# Altium footprint library tdk.PcbLib: 64 footprints (part 4 of 4)
Each footprint in its own frame and in the unit in brackets; x right, y up, seen from the top. Pads: shape width x height; smd on the part's side, far side on the other; paste and mask are expansions set on the pad; w line width, h text height; cw(c..) or ccw(c..) is an arc to the next point about the centre after c.
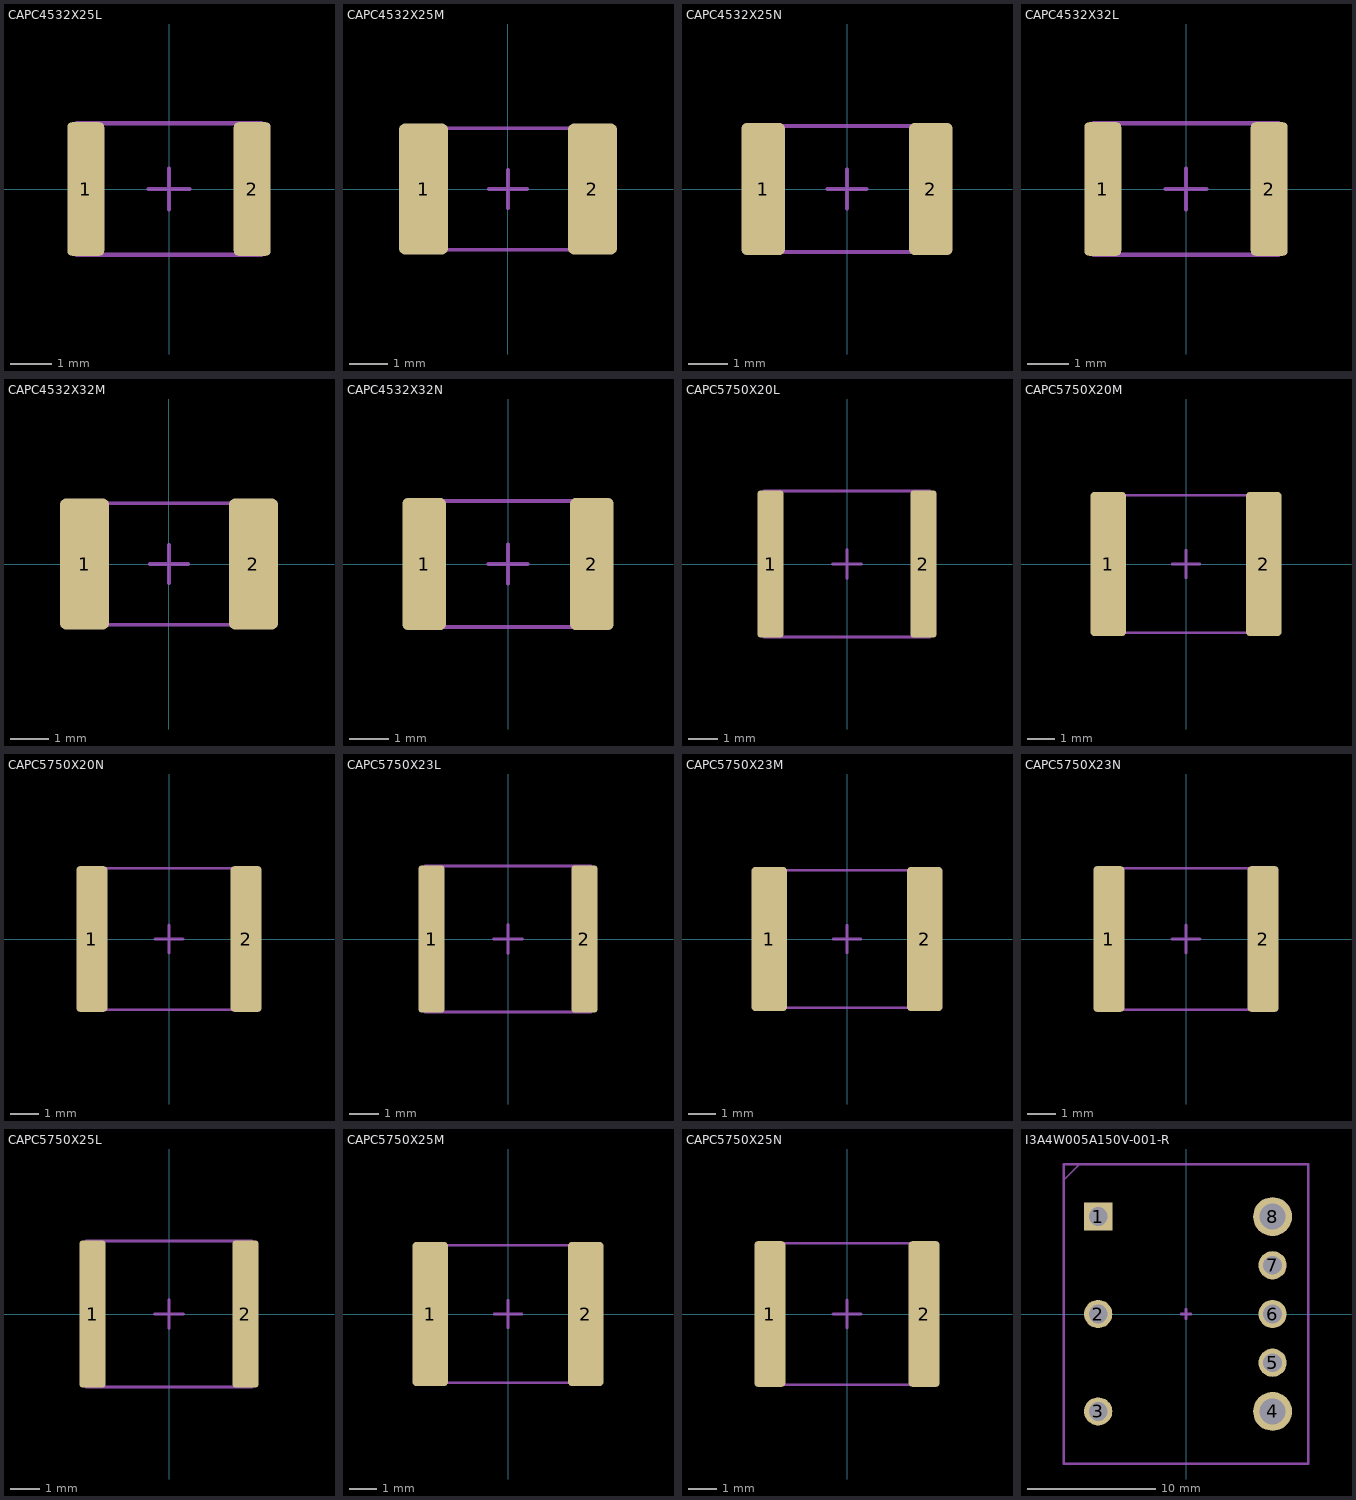
[diagram p3: the footprints below, top view; thin cyan lines are the x and y axes]

## CAPC4532X25L [mm] "Chip Capacitor, 2-Leads, Body 4.50x3.20mm, IPC High Density"
height 2.5
pads (2):
  rrect25% 0.9x3.25 smd mask+0.05: 1(-2.025,0) 2(2.025,0)
Mechanical 15:
  lines w0.1: -0.5,0 0.5,0 ; 0,-0.5 0,0.5 ; -2.25,-1.6 -2.25,1.6 2.25,1.6 2.25,-1.6 -2.25,-1.6
3D body "CAPC4532X25L.step": height 2.5, standoff 0, extent -2.25,-1.6 2.25,1.6

## CAPC4532X25M [mm] "Chip Capacitor, 2-Leads, Body 4.50x3.20mm, IPC Low Density"
height 2.5
pads (2):
  rrect25% 1.3x3.45 smd mask+0.05: 1(-2.225,0) 2(2.225,0)
Mechanical 15:
  lines w0.1: -0.5,0 0.5,0 ; 0,-0.5 0,0.5 ; -2.25,-1.6 2.25,-1.6 2.25,1.6 -2.25,1.6 -2.25,-1.6
3D body "CAPC4532X25M.step": height 2.5, standoff 0, extent -2.25,-1.6 2.25,1.6

## CAPC4532X25N [mm] "Chip Capacitor, 2-Leads, Body 4.50x3.20mm, IPC Medium Density"
height 2.5
pads (2):
  rrect25% 1.1x3.35 smd mask+0.05: 1(-2.125,0) 2(2.125,0)
Mechanical 15:
  lines w0.1: -0.5,0 0.5,0 ; 0,-0.5 0,0.5 ; -2.25,-1.6 2.25,-1.6 2.25,1.6 -2.25,1.6 -2.25,-1.6
3D body "CAPC4532X25N.step": height 2.5, standoff 0, extent -2.25,-1.6 2.25,1.6

## CAPC4532X32L [mm] "Chip Capacitor, 2-Leads, Body 4.50x3.20mm, IPC High Density"
height 3.2
pads (2):
  rrect25% 0.9x3.25 smd mask+0.05: 1(-2.025,0) 2(2.025,0)
Mechanical 15:
  lines w0.1: -0.5,0 0.5,0 ; 0,-0.5 0,0.5 ; -2.25,-1.6 2.25,-1.6 2.25,1.6 -2.25,1.6 -2.25,-1.6
3D body "CAPC4532X32L.step": height 3.2, standoff 0, extent -2.25,-1.6 2.25,1.6

## CAPC4532X32M [mm] "Chip Capacitor, 2-Leads, Body 4.50x3.20mm, IPC Low Density"
height 3.2
pads (2):
  rrect25% 1.3x3.45 smd mask+0.05: 1(-2.225,0) 2(2.225,0)
Mechanical 15:
  lines w0.1: -0.5,0 0.5,0 ; 0,-0.5 0,0.5 ; -2.25,-1.6 2.25,-1.6 2.25,1.6 -2.25,1.6 -2.25,-1.6
3D body "CAPC4532X32M.step": height 3.2, standoff 0, extent -2.25,-1.6 2.25,1.6

## CAPC4532X32N [mm] "Chip Capacitor, 2-Leads, Body 4.50x3.20mm, IPC Medium Density"
height 3.2
pads (2):
  rrect25% 1.1x3.35 smd mask+0.05: 1(-2.125,0) 2(2.125,0)
Mechanical 15:
  lines w0.1: -0.5,0 0.5,0 ; 0,-0.5 0,0.5 ; -2.25,-1.6 2.25,-1.6 2.25,1.6 -2.25,1.6 -2.25,-1.6
3D body "CAPC4532X32N.step": height 3.2, standoff 0, extent -2.25,-1.6 2.25,1.6

## CAPC5750X20L [mm] "Chip Capacitor, 2-Leads, Body 5.70x5.00mm, IPC High Density"
height 2
pads (2):
  rrect25% 0.9x5.05 smd mask+0.05: 1(-2.625,0) 2(2.625,0)
Mechanical 15:
  lines w0.1: -0.5,0 0.5,0 ; 0,-0.5 0,0.5 ; -2.85,-2.5 2.85,-2.5 2.85,2.5 -2.85,2.5 -2.85,-2.5
3D body "CAPC5750X20L.step": height 2, standoff 0, extent -2.85,-2.5 2.85,2.5

## CAPC5750X20M [mm] "Chip Capacitor, 2-Leads, Body 5.70x5.00mm, IPC Low Density"
height 2
pads (2):
  rrect25% 1.3x5.25 smd mask+0.05: 1(-2.825,0) 2(2.825,0)
Mechanical 15:
  lines w0.1: -0.5,0 0.5,0 ; 0,-0.5 0,0.5 ; -2.85,-2.5 2.85,-2.5 2.85,2.5 -2.85,2.5 -2.85,-2.5
3D body "CAPC5750X20M.step": height 2, standoff 0, extent -2.85,-2.5 2.85,2.5

## CAPC5750X20N [mm] "Chip Capacitor, 2-Leads, Body 5.70x5.00mm, IPC Medium Density"
height 2
pads (2):
  rrect25% 1.1x5.15 smd mask+0.05: 1(-2.725,0) 2(2.725,0)
Mechanical 15:
  lines w0.1: -0.5,0 0.5,0 ; 0,-0.5 0,0.5 ; -2.85,-2.5 2.85,-2.5 2.85,2.5 -2.85,2.5 -2.85,-2.5
3D body "CAPC5750X20N.step": height 2, standoff 0, extent -2.85,-2.5 2.85,2.5

## CAPC5750X23L [mm] "Chip Capacitor, 2-Leads, Body 5.70x5.00mm, IPC High Density"
height 2.3
pads (2):
  rrect25% 0.9x5.05 smd mask+0.05: 1(-2.625,0) 2(2.625,0)
Mechanical 15:
  lines w0.1: -0.5,0 0.5,0 ; 0,-0.5 0,0.5 ; -2.85,-2.5 2.85,-2.5 2.85,2.5 -2.85,2.5 -2.85,-2.5
3D body "CAPC5750X23L.step": height 2.3, standoff 0, extent -2.85,-2.5 2.85,2.5

## CAPC5750X23M [mm] "Chip Capacitor, 2-Leads, Body 5.70x5.00mm, IPC Low Density"
height 2.3
pads (2):
  rrect25% 1.3x5.25 smd mask+0.05: 1(-2.825,0) 2(2.825,0)
Mechanical 15:
  lines w0.1: -0.5,0 0.5,0 ; 0,-0.5 0,0.5 ; -2.85,-2.5 2.85,-2.5 2.85,2.5 -2.85,2.5 -2.85,-2.5
3D body "CAPC5750X23M.step": height 2.3, standoff 0, extent -2.85,-2.5 2.85,2.5

## CAPC5750X23N [mm] "Chip Capacitor, 2-Leads, Body 5.70x5.00mm, IPC Medium Density"
height 2.3
pads (2):
  rrect25% 1.1x5.15 smd mask+0.05: 1(-2.725,0) 2(2.725,0)
Mechanical 15:
  lines w0.1: -0.5,0 0.5,0 ; 0,-0.5 0,0.5 ; -2.85,-2.5 -2.85,2.5 2.85,2.5 2.85,-2.5 -2.85,-2.5
3D body "CAPC5750X23N.step": height 2.3, standoff 0, extent -2.85,-2.5 2.85,2.5

## CAPC5750X25L [mm] "Chip Capacitor, 2-Leads, Body 5.70x5.00mm, IPC High Density"
height 2.5
pads (2):
  rrect25% 0.9x5.05 smd mask+0.05: 1(-2.625,0) 2(2.625,0)
Mechanical 15:
  lines w0.1: -0.5,0 0.5,0 ; 0,-0.5 0,0.5 ; -2.85,-2.5 2.85,-2.5 2.85,2.5 -2.85,2.5 -2.85,-2.5
3D body "CAPC5750X25L.step": height 2.5, standoff 0, extent -2.85,-2.5 2.85,2.5

## CAPC5750X25M [mm] "Chip Capacitor, 2-Leads, Body 5.70x5.00mm, IPC Low Density"
height 2.5
pads (2):
  rrect25% 1.3x5.25 smd mask+0.05: 1(-2.825,0) 2(2.825,0)
Mechanical 15:
  lines w0.1: -0.5,0 0.5,0 ; 0,-0.5 0,0.5 ; -2.85,-2.5 2.85,-2.5 2.85,2.5 -2.85,2.5 -2.85,-2.5
3D body "CAPC5750X25M.step": height 2.5, standoff 0, extent -2.85,-2.5 2.85,2.5

## CAPC5750X25N [mm] "Chip Capacitor, 2-Leads, Body 5.70x5.00mm, IPC Medium Density"
height 2.5
pads (2):
  rrect25% 1.1x5.15 smd mask+0.05: 1(-2.725,0) 2(2.725,0)
Mechanical 15:
  lines w0.1: -0.5,0 0.5,0 ; 0,-0.5 0,0.5 ; -2.85,-2.5 2.85,-2.5 2.85,2.5 -2.85,2.5 -2.85,-2.5
3D body "CAPC5750X25N.step": height 2.5, standoff 0, extent -2.85,-2.5 2.85,2.5

## I3A4W005A150V-001-R [mm]
pads (8):
  rect 2.205x2.205 hole 1.47: 1(-6.85,7.6)
  round 2.205 hole 1.47: 2(-6.85,0) 3(-6.85,-7.6) 5(6.75,-3.8) 6(6.75,0) 7(6.75,3.8)
  round 3.03 hole 2.02: 4(6.75,-7.6) 8(6.75,7.6)
Top Overlay:
  text "." at -10.221,8.304 h1.52
Mechanical 13:
  lines w0.127: -9.55,-11.7 9.55,-11.7 9.55,11.7 -8.28,11.7 -9.55,10.43 -9.55,-11.7
Mechanical 15:
  lines w0.2: -0.375,0 0.375,0 ; 0,-0.375 0,0.375 ; -9.525,-11.684 9.525,-11.684 9.525,11.684 -9.525,11.684 -9.525,-11.684
3D body "step_temp.STEP": height 9.65, standoff -3.68, extent -9.525,-11.684 9.525,11.684